# EAGLE library part LT1637CS8PBF (library 029000100  -  gKEagleLibrary)
1.1MHz, 0.4V/ìs Over-The-Top Micropower, Rail-To-Rail Input and Output Op Amp
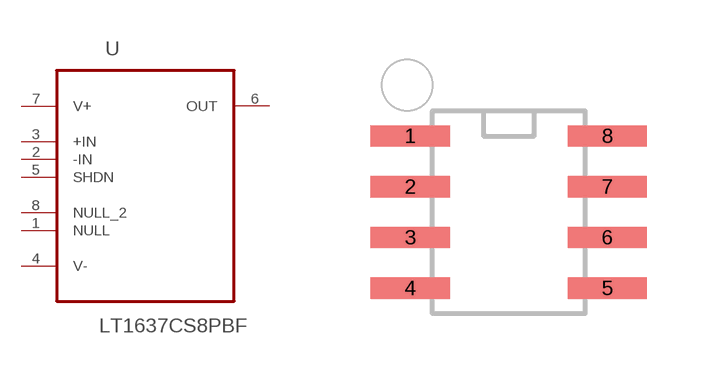
[diagram p35: symbol with the pads of SOIC127P600X175-8N; footprint SOIC127P600X175-8N]

Designator prefix U

## LT1637CS8PBF (MPN: LT1637CS8#PBF; OC_FARNELL: 1663459; OC_NEWARK: 57M5460; PACKAGE: SOIC-8; SUPPLIER: Linear Technology)  [SOIC127P600X175-8N]
1  NULL  pas
2  -IN  in
3  +IN  in
4  V-  pwr
5  SHDN  in
6  OUT  out
7  V+  pwr
8  NULL_2  pas

## Footprint SOIC127P600X175-8N (pad centres in mm)
smd 1.981 x 0.533: 1 -2.464,1.905; 2 -2.464,0.635; 3 -2.464,-0.635; 4 -2.464,-1.905; 5 2.464,-1.905; 6 2.464,-0.635; 7 2.464,0.635; 8 2.464,1.905